# EAGLE library part CAT28C16ALI-20 (library Catalyst_Semiconductor_By_element14_Batch_1)
16 kb CMOS Parallel EEPROM
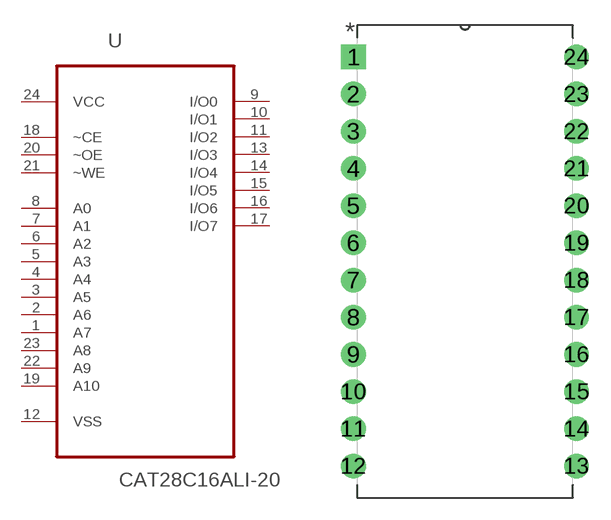
[diagram p21: symbol with the pads of DIP254P1524X635-24; footprint DIP254P1524X635-24]

Designator prefix U

## CAT28C16ALI-20 (MPN: CAT28C16ALI-20; OC_FARNELL: 1718293; OC_NEWARK: 06R0649; PACKAGE: PDIP-24; SUPPLIER: CATALYST SEMICONDUCTOR)  [DIP254P1524X635-24]
1  A7  in
2  A6  in
3  A5  in
4  A4  in
5  A3  in
6  A2  in
7  A1  in
8  A0  in
9  I/O0
10  I/O1
11  I/O2
12  VSS  pwr
13  I/O3
14  I/O4
15  I/O5
16  I/O6
17  I/O7
18  ~CE  in
19  A10  in
20  ~OE  in
21  ~WE  in
22  A9  in
23  A8  in
24  VCC  pwr

## Footprint DIP254P1524X635-24 (pad centres in mm)
drill 1.118 square: 1 -15.24,27.94
drill 1.118: 2 -15.24,25.4; 3 -15.24,22.86; 4 -15.24,20.32; 5 -15.24,17.78; 6 -15.24,15.24; 7 -15.24,12.7; 8 -15.24,10.16; 9 -15.24,7.62; 10 -15.24,5.08; 11 -15.24,2.54; 12 -15.24,0; 13 0,0; 14 0,2.54; 15 0,5.08; 16 0,7.62; 17 0,10.16; 18 0,12.7; 19 0,15.24; 20 0,17.78; 21 0,20.32; 22 0,22.86; 23 0,25.4; 24 0,27.94